# Altium schematic symbol library XL6006.SchLib: 1 symbol
Pins are listed as number, name and electrical type; pins without a type are passive.

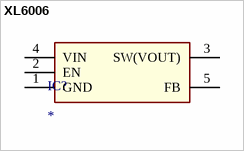
[diagram p0: symbol XL6006]

## XL6006
designator IC?
180KHz 60V 5A Switching Current Boost LED Constant Current Driver; Manufacturer_Name: Xlsemi; Manufacturer_Part_Number: XL6006; Datasheet Link: http://www.xlsemi.net/datasheet/XL6006%20datasheet-English.pdf
footprint XL6006
pins: 1 GND, 2 EN, 3 SW(VOUT), 4 VIN, 5 FB